# EAGLE library part LOGIC-4024 (library tidyeagle)
4024 7-stage ripple-carry binary counter Datasheet: Texas Instruments CD4024B <http://www.ti.com/lit/ds/symlink/cd4040b.pdf> Application Notes: Supply: 3V - 18V Pull RESET HIGH to reset to zero
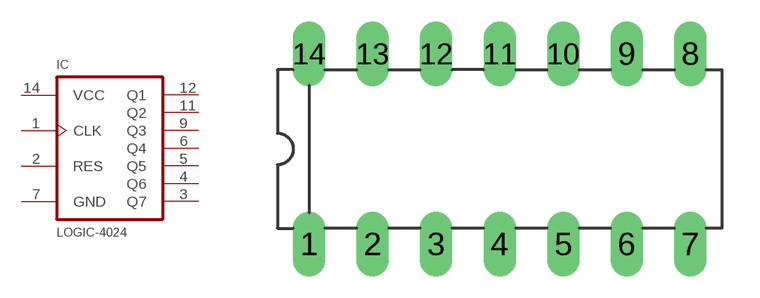
[diagram p25: symbol with the pads of DIL14-3; footprint DIL14-3]

Designator prefix IC

## LOGIC-4024-DIL16  [DIL14-3]
1  CLK  in
2  RES  in
3  Q7  out
4  Q6  out
5  Q5  out
6  Q4  out
7  GND
9  Q3  out
11  Q2  out
12  Q1  out
14  VCC

## Footprint DIL14-3 (pad centres in mm)
drill 0.8 long: 1 -7.62,-3.81; 2 -5.08,-3.81; 3 -2.54,-3.81; 4 0,-3.81; 5 2.54,-3.81; 6 5.08,-3.81; 7 7.62,-3.81; 8 7.62,3.81; 9 5.08,3.81; 10 2.54,3.81; 11 0,3.81; 12 -2.54,3.81; 13 -5.08,3.81; 14 -7.62,3.81